# EAGLE library part PINHD-1X6 (library pinhead)
PIN HEADER
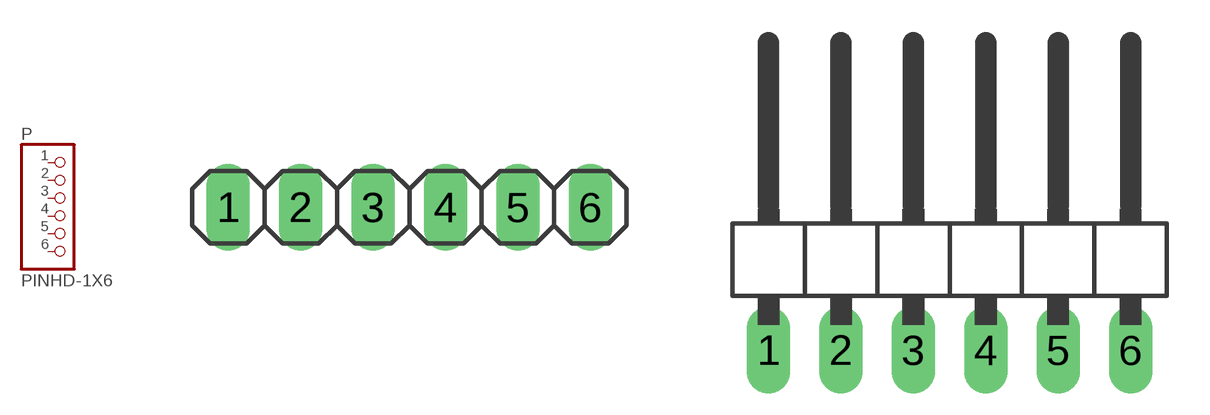
[diagram p29: symbol with the pads of 1X06; footprints 1X06, 1X06/90]

Designator prefix P

## PINHD-1X6  [1X06]
1  1  pas
2  2  pas
3  3  pas
4  4  pas
5  5  pas
6  6  pas

## PINHD-1X6/90  [1X06/90]
Pads as for 1X06

## PINHD-1X6SMD_RM1.27  [1X06SMDRM1]
Pads as for 1X06

## PINHD-1X6RM08  [1X06RM08]
Pads as for 1X06

## PINHD-1X6RM2  [1X06RM2]
Pads as for 1X06

## PINHD-1X6RM2/90  [1X06RM2/90]
Pads as for 1X06

## Footprint 1X06 (pad centres in mm)
PIN HEADER
drill 1.016 long: 1 -6.35,0; 2 -3.81,0; 3 -1.27,0; 4 1.27,0; 5 3.81,0; 6 6.35,0

## Footprint 1X06/90 (pad centres in mm)
PIN HEADER
drill 1.016 long: 1 -6.35,-3.81; 2 -3.81,-3.81; 3 -1.27,-3.81; 4 1.27,-3.81; 5 3.81,-3.81; 6 6.35,-3.81

## Footprint 1X06SMDRM1 (pad centres in mm)
smd 0.8 x 0.8: 1 -2.54,0; 2 -1.27,0; 3 0,0; 4 1.27,0; 5 2.54,0; 6 3.81,0

## Footprint 1X06RM08 (pad centres in mm)
drill 0.4 pad 0.6 long: 1 -2,0; 2 -1.2,0; 3 -0.4,0; 4 0.4,0; 5 1.2,0; 6 2,0

## Footprint 1X06RM2 (pad centres in mm)
drill 0.8 pad 1.6 long: 1 -5,0; 2 -3,0; 3 -1,0; 4 1,0; 5 3,0; 6 5,0

## Footprint 1X06RM2/90 (pad centres in mm)
RGBCCT LED Strip Connector Male 6 pin SMD RM2
smd 1.6 x 4: 1 -5,-0.5; 2 -3,-0.5; 3 -1,-0.5; 4 1,-0.5; 5 3,-0.5; 6 5,-0.5